# EAGLE library part GT-TF003-H0185-02 (library LARS_409_MODULES)
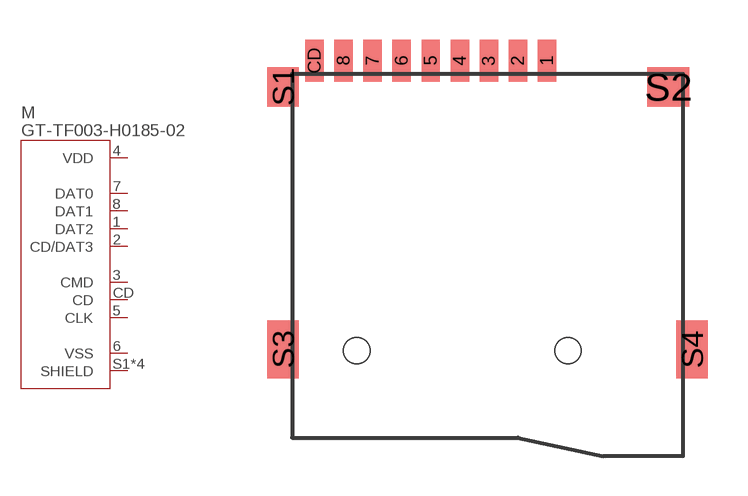
[diagram p12: symbol with the pads of SMD; footprint SMD]

Designator prefix M

## GT-TF003-H0185-02  [SMD]
1  DAT2
2  CD/DAT3
3  CMD
4  VDD
5  CLK
6  VSS
7  DAT0
8  DAT1
CD  CD
S1  SHIELD
S2  SHIELD
S3  SHIELD
S4  SHIELD

## Footprint SMD (pad centres in mm)
smd 0.7 x 1.6: 1 2.25,7.4; 2 1.15,7.4; 3 0.05,7.4; 4 -1.05,7.4; 5 -2.15,7.4; 6 -3.25,7.4; 7 -4.35,7.4; 8 -5.45,7.4; CD -6.55,7.4
smd 1.2 x 1.5: S1 -7.75,6.4
smd 1.6 x 1.5: S2 6.85,6.4
smd 1.2 x 2.2: S3 -7.75,-3.55; S4 7.75,-3.55
hole 1 at -4.95,-3.6
hole 1 at 3.05,-3.6